# EAGLE library part MICROSD_SPI_MODE (library domonetic)
MOLEX - 49225-0821 - CONNECTEUR MICRO SD PUSH/PUSH REV Fabricant: MOLEX Code commande Farnell: 1366700 <http://fr.farnell.com/molex/49225-0821/connecteur-micro-sd-push-push-rev/dp/1366700?Ntt=1366700> Référence fabricant: 49225-0821
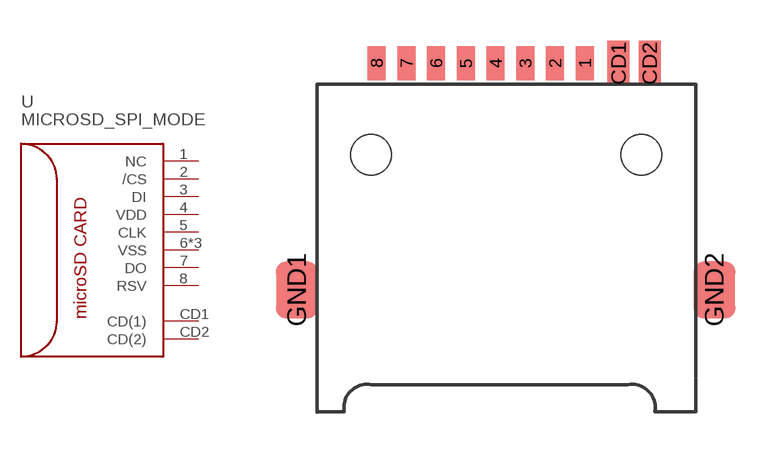
[diagram p7: symbol with the pads of MICRO_SD_PPLT3_COMET; footprint MICRO_SD_PPLT3_COMET]

Designator prefix -

## MICROSD_SPI_MODEMICRO_SD_COMET  [MICRO_SD_PPLT3_COMET]
1  NC
2  /CS
3  DI
4  VDD
5  CLK
6  VSS
7  DO
8  RSV
CD1  CD(1)
CD2  CD(2)
GND1  VSS
GND2  VSS

## Footprint MICRO_SD_PPLT3_COMET (pad centres in mm)
smd 0.66 x 1.27: 1 9.9,12.88; 2 8.8,12.88; 3 7.7,12.88; 4 6.6,12.88; 5 5.5,12.88; 6 4.4,12.88; 7 3.3,12.88; 8 2.2,12.88
smd 0.813 x 1.676: CD1 11.15,12.88; CD2 12.3,12.88
smd 1.55 x 2.1: GND1 -0.75,4.5; GND2 14.7,4.5
hole 1.5 at 2,9.5
hole 1.5 at 12,9.5